# Altium schematic symbol library MacroPad_schematicsLibrary.SchLib: 7 symbols
Pins are listed as number, name and electrical type; pins without a type are passive.

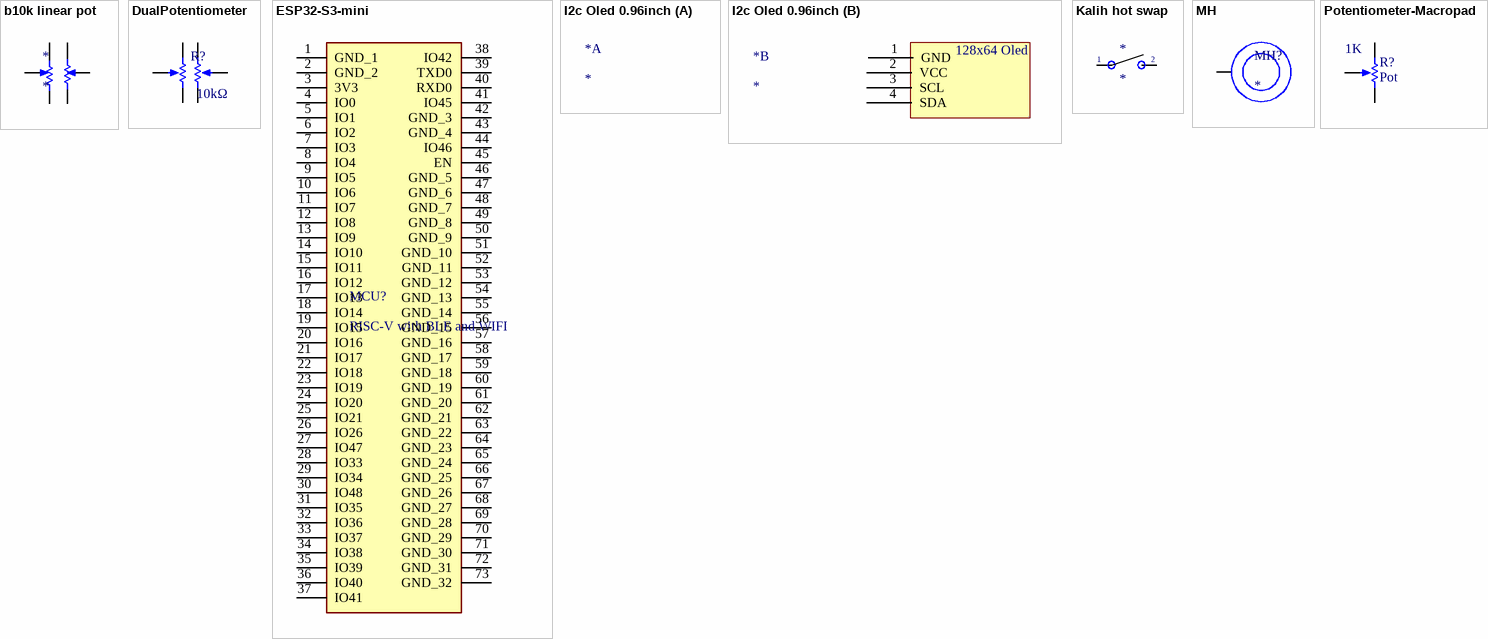
[diagram p0: symbols b10k linear pot to Potentiometer-Macropad]

## b10k linear pot
designator *
footprint b10k; pin to pad 1>5 2>6 3>1 4>3 5>2 6>4
pins: 1, 2, 3 Data, 4, 5, 6

## DualPotentiometer
designator R?
b10k linear potentiometer 10kohm
footprint b10k; pin to pad 1>5 2>1 3>2 4>6 5>3 6>4
pins: 1 VCC, 2 DATA, 3 GND, 4 VCC, 5 DATA, 6 GND
text: 10kΩ

## ESP32-S3-mini
designator MCU?, comment RISC-V with BLE and WIFI
footprint ESP32S3MINI1N8
pins: 1 GND_1, 2 GND_2, 3 3V3, 4 IO0, 5 IO1, 6 IO2, 7 IO3, 8 IO4, 9 IO5, 10 IO6, 11 IO7, 12 IO8, 13 IO9, 14 IO10, 15 IO11, 16 IO12, 17 IO13, 18 IO14, 19 IO15, 20 IO16, 21 IO17, 22 IO18, 23 IO19, 24 IO20, 25 IO21, 26 IO26, 27 IO47, 28 IO33, 29 IO34, 30 IO48, 31 IO35, 32 IO36, 33 IO37, 34 IO38, 35 IO39, 36 IO40, 37 IO41, 38 IO42, 39 TXD0, 40 RXD0, 41 IO45, 42 GND_3, 43 GND_4, 44 IO46, 45 EN, 46 GND_5, 47 GND_6, 48 GND_7, 49 GND_8, 50 GND_9, 51 GND_10, 52 GND_11, 53 GND_12, 54 GND_13, 55 GND_14, 56 GND_15, 57 GND_16, 58 GND_17, 59 GND_18, 60 GND_19, 61 GND_20, 62 GND_21, 63 GND_22, 64 GND_23, 65 GND_24, 66 GND_25, 67 GND_26, 68 GND_27, 69 GND_28, 70 GND_29, 71 GND_30, 72 GND_31, 73 GND_32

## I2c Oled 0.96inch
designator *
footprint I2C oled 0.49"
part B pins: 1 GND, 2 VCC, 3 SCL, 4 SDA
part B text: 128x64 Oled

## Kalih hot swap
designator *
footprint Kailh_socket_MX_optional_reversible; pin to pad 1>3 2>4 6>4
pins: 1, 2

## MH
designator MH?
footprint MountingHole_2.7mm_M2.5_Pad_Via
pins: 1

## Potentiometer-Macropad
designator R?, comment Pot  value 1K
Potentiometer; Sim Note: Enter the Resistance value and the set point into parameter fields.; Set Position: 0.5; Published: 8-Jun-2000; LatestRevisionDate: 17-Jul-2002; LatestRevisionNote: Re-released for DXP Platform.; PackageReference: VR5; Publisher: Altium Limited; PackageDescription: Variable Resistor, Thru-Hole; 3 Leads
pins: 1 TOP, 2 BOT, 3 TAP
1 alternate drawing of the same symbol